# Altium schematic symbol library IC_chips.SchLib: 104 symbols (part 2 of 2)
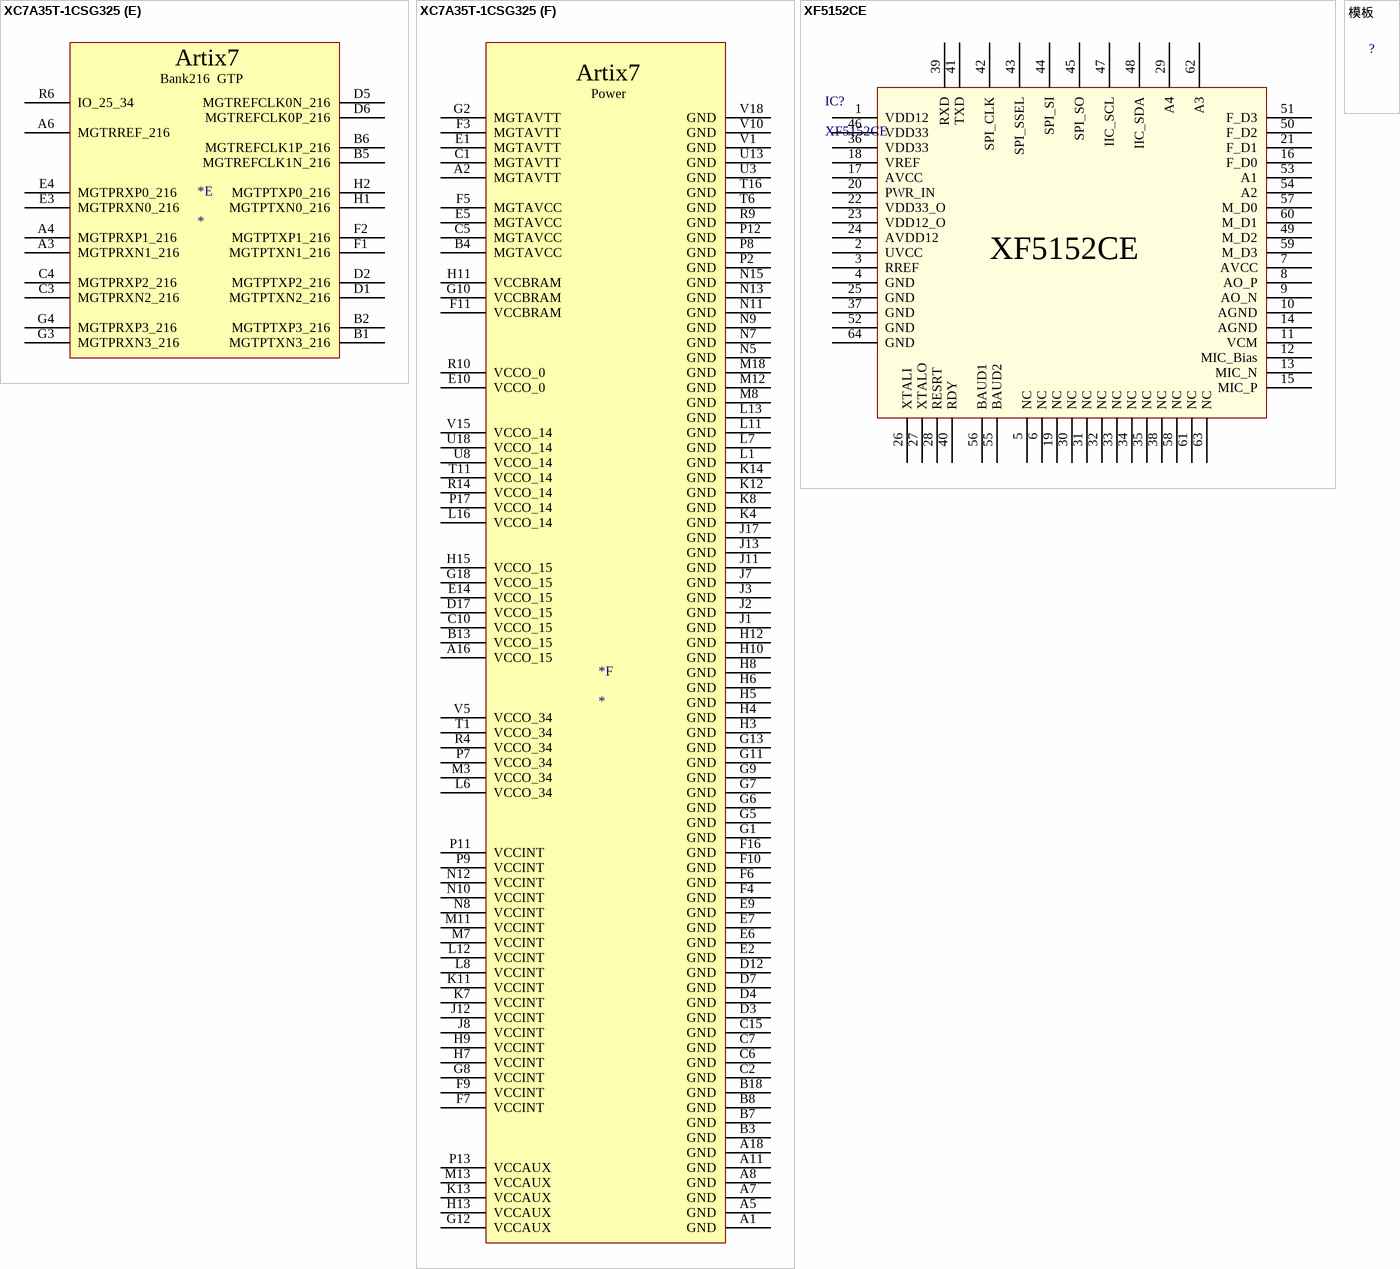
[diagram p9: symbols XC7A35T-1CSG325 to 模板]

## XC7A35T-1CSG325
designator *
footprint BGA324C80P18X18_1500X1500X150 (BGA, 324-Leads, Body 15.00x15.00mmx1.50mm, Pitch 0.80mm)
part A pins: E8 CCLK_0, E11 VCCBATT_0, E12 CFGBVS_0, F8 TCK_0, F12 DONE_0, F13 M2_0, J9 GNDADC_0, J10 VCCADC_0, K9 VREFN_0, K10 VP_0, L9 VN_0, L10 VREFP_0, M9 DXN_0, M10 DXP_0, P10 PROGRAM_B_0, R8 TMS_0, R11 M1_0, R12 M0_0, T8 TDO_0, T9 TDI_0, T10 INIT_B_0
part B pins: J14 IO_L5P_T0_D06_14, J15 IO_L2P_T0_D02_14, J16 IO_L2N_T0_D03_14, J18 IO_L3P_T0_DQS_PUDC_B_14, K15 IO_L5N_T0_D07_14, K16 IO_L1P_T0_D00_MOSI_14, K17 IO_L4P_T0_D04_14, K18 IO_L3N_T0_DQS_EMCCLK_14, L14 IO_0_14, L15 IO_L6P_T0_FCS_B_14, L17 IO_L1N_T0_D01_DIN_14, L18 IO_L4N_T0_D05_14, M14 IO_L8P_T1_D11_14, M15 IO_L6N_T0_D08_VREF_14, M16 IO_L7P_T1_D09_14, M17 IO_L7N_T1_D10_14, N14 IO_L8N_T1_D12_14, N16 IO_L9P_T1_DQS_14, N17 IO_L9N_T1_DQS_D13_14, N18 IO_L10P_T1_D14_14, P14 IO_L12P_T1_MRCC_14, P15 IO_L11P_T1_SRCC_14, P16 IO_L11N_T1_SRCC_14, P18 IO_L10N_T1_D15_14, R13 IO_L19P_T3_A10_D26_14, R15 IO_L12N_T1_MRCC_14, R16 IO_L14P_T2_SRCC_14, R17 IO_L14N_T2_SRCC_14, R18 IO_L15P_T2_DQS_RDWR_B_14, T12 IO_L22P_T3_A05_D21_14, T13 IO_L19N_T3_A09_D25_VREF_14, T14 IO_L13P_T2_MRCC_14, T15 IO_L13N_T2_MRCC_14, T17 IO_L16P_T2_CSI_B_14, T18 IO_L15N_T2_DQS_DOUT_CSO_B_14, U9 IO_L24P_T3_A01_D17_14, U10 IO_25_14, U11 IO_L23P_T3_A03_D19_14, U12 IO_L22N_T3_A04_D20_14, U14 IO_L20P_T3_A08_D24_14, U15 IO_L17P_T2_A14_D30_14, U16 IO_L17N_T2_A13_D29_14, U17 IO_L16N_T2_A15_D31_14, V9 IO_L24N_T3_A00_D16_14, V11 IO_L23N_T3_A02_D18_14, V12 IO_L21P_T3_DQS_14, V13 IO_L21N_T3_DQS_A06_D22_14, V14 IO_L20N_T3_A07_D23_14, V16 IO_L18P_T2_A12_D28_14, V17 IO_L18N_T2_A11_D27_14
part C pins: A9 IO_L3N_T0_DQS_AD1N_15, A10 IO_L5N_T0_AD9N_15, A12 IO_L7N_T1_AD2N_15, A13 IO_L8P_T1_AD10P_15, A14 IO_L8N_T1_AD10N_15, A15 IO_L10N_T1_AD11N_15, A17 IO_L15N_T2_DQS_ADV_B_15, B9 IO_L3P_T0_DQS_AD1P_15, B10 IO_L5P_T0_AD9P_15, B11 IO_L4N_T0_15, B12 IO_L7P_T1_AD2P_15, B14 IO_L10P_T1_AD11P_15, B15 IO_L9N_T1_DQS_AD3N_15, B16 IO_L15P_T2_DQS_15, B17 IO_L16N_T2_A27_15, C8 IO_L1N_T0_AD0N_15, C9 IO_L2N_T0_AD8N_15, C11 IO_L4P_T0_15, C12 IO_L6N_T0_VREF_15, C13 IO_L11N_T1_SRCC_15, C14 IO_L9P_T1_DQS_AD3P_15, C16 IO_L16P_T2_A28_15, C17 IO_L18P_T2_A24_15, C18 IO_L18N_T2_A23_15, D8 IO_L1P_T0_AD0P_15, D9 IO_L2P_T0_AD8P_15, D10 IO_0_15, D11 IO_L6P_T0_15, D13 IO_L11P_T1_SRCC_15, D14 IO_L12N_T1_MRCC_15, D15 IO_L13N_T2_MRCC_15, D16 IO_L14N_T2_SRCC_15, D18 IO_L17N_T2_A25_15, E13 IO_L12P_T1_MRCC_15, E15 IO_L13P_T2_MRCC_15, E16 IO_L14P_T2_SRCC_15, E17 IO_L17P_T2_A26_15, E18 IO_L24N_T3_RS0_15, F14 IO_L22N_T3_A16_15, F15 IO_L21N_T3_DQS_A18_15, F17 IO_L24P_T3_RS1_15, F18 IO_L19N_T3_A21_VREF_15, G14 IO_L22P_T3_A17_15, G15 IO_L21P_T3_DQS_15, G16 IO_L20N_T3_A19_15, G17 IO_L19P_T3_A22_15, H14 IO_25_15, H16 IO_L20P_T3_A20_15, H17 IO_L23P_T3_FOE_B_15, H18 IO_L23N_T3_FWE_B_15
part D pins: J4 IO_L2N_T0_34, J5 IO_L2P_T0_34, J6 IO_0_34, K1 IO_L3N_T0_DQS_34, K2 IO_L3P_T0_DQS_34, K3 IO_L4P_T0_34, K5 IO_L1N_T0_34, K6 IO_L1P_T0_34, L2 IO_L4N_T0_34, L3 IO_L5N_T0_34, L4 IO_L5P_T0_34, L5 IO_L6P_T0_34, M1 IO_L7N_T1_34, M2 IO_L7P_T1_34, M4 IO_L10P_T1_34, M5 IO_L6N_T0_VREF_34, M6 IO_L8P_T1_34, N1 IO_L9P_T1_DQS_34, N2 IO_L11N_T1_SRCC_34, N3 IO_L11P_T1_SRCC_34, N4 IO_L10N_T1_34, N6 IO_L8N_T1_34, P1 IO_L9N_T1_DQS_34, P3 IO_L12N_T1_MRCC_34, P4 IO_L12P_T1_MRCC_34, P5 IO_L19N_T3_VREF_34, P6 IO_L19P_T3_34, R1 IO_L13N_T2_MRCC_34, R2 IO_L13P_T2_MRCC_34, R3 IO_L14P_T2_SRCC_34, R5 IO_L21P_T3_DQS_34, R6 IO_25_34, R7 IO_L22P_T3_34, T2 IO_L14N_T2_SRCC_34, T3 IO_L17N_T2_34, T4 IO_L17P_T2_34, T5 IO_L21N_T3_DQS_34, T7 IO_L22N_T3_34, U1 IO_L15N_T2_DQS_34, U2 IO_L15P_T2_DQS_34, U4 IO_L18P_T2_34, U5 IO_L20N_T3_34, U6 IO_L20P_T3_34, U7 IO_L23P_T3_34, V2 IO_L16N_T2_34, V3 IO_L16P_T2_34, V4 IO_L18N_T2_34, V6 IO_L23N_T3_34, V7 IO_L24N_T3_34, V8 IO_L24P_T3_34
part E pins: A3 MGTPRXN1_216, A4 MGTPRXP1_216, A6 MGTRREF_216, B1 MGTPTXN3_216, B2 MGTPTXP3_216, B5 MGTREFCLK1N_216, B6 MGTREFCLK1P_216, C3 MGTPRXN2_216, C4 MGTPRXP2_216, D1 MGTPTXN2_216, D2 MGTPTXP2_216, D5 MGTREFCLK0N_216, D6 MGTREFCLK0P_216, E3 MGTPRXN0_216, E4 MGTPRXP0_216, F1 MGTPTXN1_216, F2 MGTPTXP1_216, G3 MGTPRXN3_216, G4 MGTPRXP3_216, H1 MGTPTXN0_216, H2 MGTPTXP0_216, R6 IO_25_34
part F pins: A1 GND, A2 MGTAVTT, A5 GND, A7 GND, A8 GND, A11 GND, A16 VCCO_15, A18 GND, B3 GND, B4 MGTAVCC, B7 GND, B8 GND, B13 VCCO_15, B18 GND, C1 MGTAVTT, C2 GND, C5 MGTAVCC, C6 GND, C7 GND, C10 VCCO_15, C15 GND, D3 GND, D4 GND, D7 GND, D12 GND, D17 VCCO_15, E1 MGTAVTT, E2 GND, E5 MGTAVCC, E6 GND, E7 GND, E9 GND, E10 VCCO_0, E14 VCCO_15, F3 MGTAVTT, F4 GND, F5 MGTAVCC, F6 GND, F7 VCCINT, F9 VCCINT, F10 GND, F11 VCCBRAM, F16 GND, G1 GND, G2 MGTAVTT, G5 GND, G6 GND, G7 GND, G8 VCCINT, G9 GND, G10 VCCBRAM, G11 GND, G12 VCCAUX, G13 GND, G18 VCCO_15, H3 GND, H4 GND, H5 GND, H6 GND, H7 VCCINT, H8 GND, H9 VCCINT, H10 GND, H11 VCCBRAM, H12 GND, H13 VCCAUX, H15 VCCO_15, J1 GND, J2 GND, J3 GND, J7 GND, J8 VCCINT, J11 GND, J12 VCCINT, J13 GND, J17 GND, K4 GND, K7 VCCINT, K8 GND, K11 VCCINT, K12 GND, K13 VCCAUX, K14 GND, L1 GND, L6 VCCO_34, L7 GND, L8 VCCINT, L11 GND, L12 VCCINT, L13 GND, L16 VCCO_14, M3 VCCO_34, M7 VCCINT, M8 GND, M11 VCCINT, M12 GND, M13 VCCAUX, M18 GND, N5 GND, N7 GND, N8 VCCINT, N9 GND, N10 VCCINT, N11 GND, N12 VCCINT, N13 GND, N15 GND, P2 GND, P7 VCCO_34, P8 GND, P9 VCCINT, P11 VCCINT, P12 GND, P13 VCCAUX, P17 VCCO_14, R4 VCCO_34, R9 GND, R10 VCCO_0, R14 VCCO_14, T1 VCCO_34, T6 GND, T11 VCCO_14, T16 GND, U3 GND, U8 VCCO_14, U13 GND, U18 VCCO_14, V1 GND, V5 VCCO_34, V10 GND, V15 VCCO_14, V18 GND
part A text: Artix7; config
part B text: Artix7; Bank14
part C text: Artix7; Bank15
part D text: Artix7; Bank34
part E text: Artix7; Bank216  GTP
part F text: Artix7; Power

## XF5152CE
designator IC?
语音识别合成芯片; BOM名称: 语音合成芯片; 版权归属: 黎明电子style; 学习资源: https://lmdzstyle.taobao.com/
footprint LQFP64 10X10_N (64脚，体宽10x10mm，脚距0.5mm)
footprint LQFP64 10X10_M (64脚，体宽10x10mm，脚距0.5mm)
footprint LQFP64 10X10_L (64脚，体宽10x10mm，脚距0.5mm)
pins: 1 VDD12 "DBVDD", 2 UVCC "DBVDD", 3 RREF "DBVDD", 4 GND "DBVDD", 5 NC "DBVDD", 6 NC "DBVDD", 7 AVCC "DBVDD", 8 AO_P "DBVDD", 9 AO_N "DBVDD", 10 AGND "DBVDD", 11 VCM "DBVDD", 12 MIC_Bias "DBVDD", 13 MIC_N "DBVDD", 14 AGND "DBVDD", 15 MIC_P "DBVDD", 16 F_D0 "DBVDD", 17 AVCC "DBVDD", 18 VREF "DBVDD", 19 NC "DBVDD", 20 PWR_IN "DBVDD", 21 F_D1 "DBVDD", 22 VDD33_O "DBVDD", 23 VDD12_O "DBVDD", 24 AVDD12 "DBVDD", 25 GND "DBVDD", 26 XTALI "DBVDD", 27 XTALO "DBVDD", 28 RESRT "DBVDD", 29 A4 "DBVDD", 30 NC "DBVDD", 31 NC "DBVDD", 32 NC "DBVDD", 33 NC "DBVDD", 34 NC "DBVDD", 35 NC "DBVDD", 36 VDD33 "DBVDD", 37 GND "DBVDD", 38 NC "DBVDD", 39 RXD "DBVDD", 40 RDY "DBVDD", 41 TXD "DBVDD", 42 SPI_CLK "DBVDD", 43 SPI_SSEL "DBVDD", 44 SPI_SI "DBVDD", 45 SPI_SO "DBVDD", 46 VDD33 "DBVDD", 47 IIC_SCL "DBVDD", 48 IIC_SDA "DBVDD", 49 M_D2 "DBVDD", 50 F_D2 "DBVDD", 51 F_D3 "DBVDD", 52 GND "DBVDD", 53 A1 "DBVDD", 54 A2 "DBVDD", 55 BAUD2 "DBVDD", 56 BAUD1 "DBVDD", 57 M_D0 "DBVDD", 58 NC "DBVDD", 59 M_D3 "DBVDD", 60 M_D1 "DBVDD", 61 NC "DBVDD", 62 A3 "DBVDD", 63 NC "DBVDD", 64 GND "DBVDD"

## 模板
designator ?
版权归属: 黎明电子style; 学习资源: https://lmdzstyle.taobao.com/